# Altium footprint library CapacitoresIntiSat.PCBLIB: 196 footprints (part 5 of 13)
Each footprint in its own frame and in the unit in brackets; x right, y up, seen from the top. Pads: shape width x height; smd on the part's side, far side on the other; paste and mask are expansions set on the pad; w line width, h text height; cw(c..) or ccw(c..) is an arc to the next point about the centre after c.
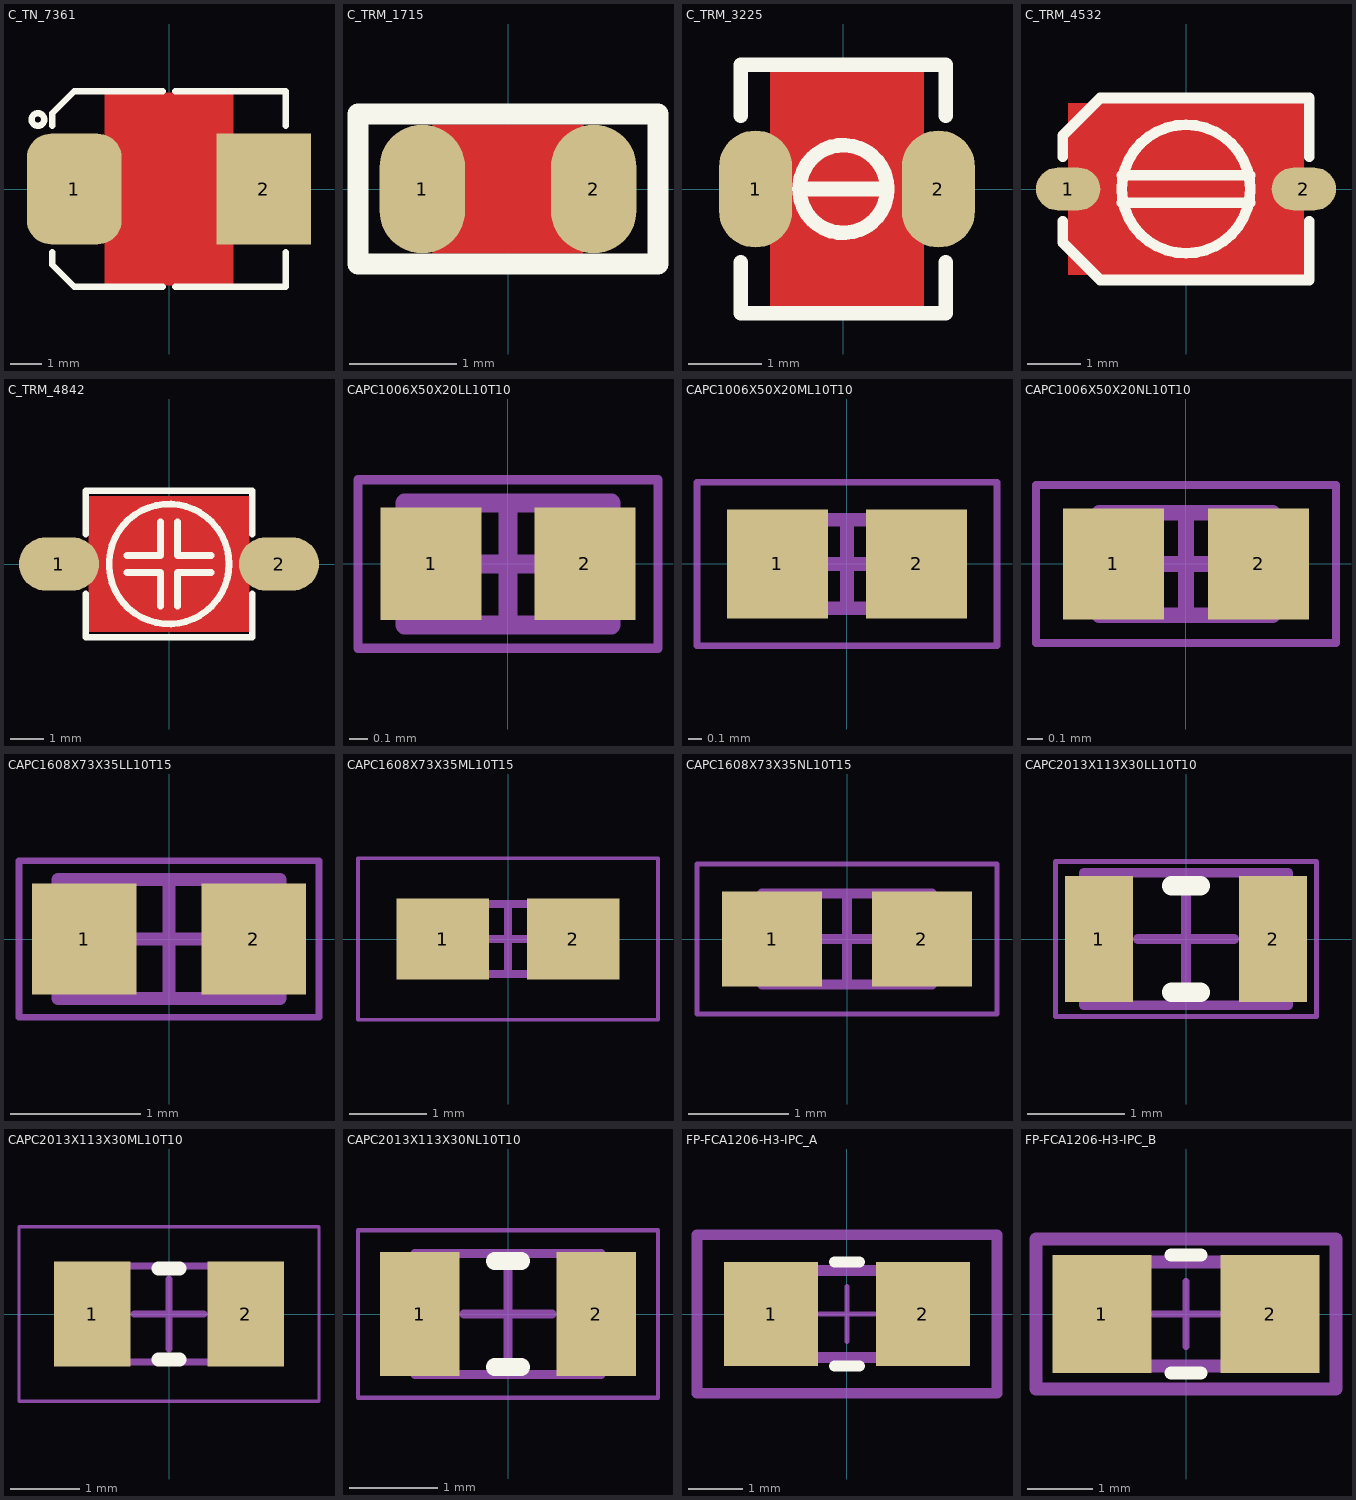
[diagram p4: the footprints below, top view; thin cyan lines are the x and y axes]

## C_TN_7361 [mm] "CAPACITOR, TAN V, 2924, 7361, 7.3X6.1mm"
pads (2):
  rrect50% 3x3.5 smd: 1(-3,0)
  rect 3x3.5 smd: 2(3,0)
Top Layer:
  pour cut-out: -2.032,3.048 -2.032,-3.048 2.032,-3.048 2.032,3.048
Top Overlay:
  circle w0.2: c-4.15,2.2 r0.2
  lines w0.2: -3.7,-2 -3.7,-2.4 -3,-3.1 -0.2,-3.1 ; -3.7,2 -3.7,2.4 -3,3.1 -0.2,3.1 ; 0.2,-3.1 3.7,-3.1 3.7,-2 ; 0.2,3.1 3.7,3.1 3.7,2
3D body "User Library-CT_V.step": height 3.45, standoff 0, extent -3.65,-3.05 3.65,3.05

## C_TRM_1715 [mm] "Cap, Trimmer TZR1 1.7mmX1.5mm"
pads (2):
  oval 0.8x1.2 smd mask+0.075: 1(-0.8,0) 2(0.8,0)
Top Layer:
  pour cut-out: -0.7,0.6 0.7,0.6 0.7,-0.6 -0.7,-0.6
Top Overlay:
  lines w0.2: -1.4,-0.7 -1.4,0.7 1.4,0.7 1.4,-0.7 -1.4,-0.7
3D body "User Library-TZR1.STEP": height 1, standoff -0.01, extent -0.864,-0.75 0.85,0.75

## C_TRM_3225 [mm] "Cap, Trimmer TZY2 3.2mmX2.5mm"
pads (2):
  oval 1x1.6 smd: 1(-1.2,0) 2(1.3,0)
Top Layer:
  pour cut-out: -1,1.7 1.1,1.7 1.1,-1.6 -1,-1.6
Top Overlay:
  circle w0.2: c0,0 r0.6
  lines w0.2: -1.4,-1 -1.4,-1.7 1.4,-1.7 1.4,-1 ; -1.4,1 -1.4,1.7 1.4,1.7 1.4,1 ; -0.6,0 0.6,0
3D body "User Library-tzy2seriestrimcap.step": height 1.24, standoff -0.01, extent -1.25,-1.6 1.25,1.6

## C_TRM_4532 [mm] "Cap, Trimmer TZC3 4.5X3.2mm"
pads (2):
  oval 1.2x0.8 smd: 1(-2.2,0) 2(2.2,0)
Top Layer:
  pour cut-out: -2.2,1.6 2.2,1.6 2.2,-1.6 -2.2,-1.6
Top Overlay:
  circle w0.2: c0,0 r1.2
  lines w0.2: -2.3,-0.6 -2.3,-1 -1.6,-1.7 2.3,-1.7 2.3,-0.6 ; -2.3,0.6 -2.3,1 -1.6,1.7 2.3,1.7 2.3,0.6 ; -1.2,-0.254 1.2,-0.254 ; -1.2,0.254 1.2,0.254
3D body "User Library-TZC3P300A110R00.STEP": height 1.6, standoff 0, extent -2.25,-1.6 2.25,1.6

## C_TRM_4842 [mm] "Cap, Trimmer SMD 4.8x4.2mm"
pads (2):
  oval 2.4x1.6 smd: 1(-3.3,0) 2(3.3,0)
Top Layer:
  pour cut-out: -2.413,2.032 2.413,2.032 2.413,-2.032 -2.413,-2.032
Top Overlay:
  circle w0.2: c0,0 r1.8
  lines w0.2: -2.5,-0.9 -2.5,-2.2 2.5,-2.2 2.5,-0.9 ; -2.5,0.9 -2.5,2.2 2.5,2.2 2.5,0.9 ; -1.27,-0.254 -0.254,-0.254 -0.254,-1.27 ; -1.27,0.254 -0.254,0.254 -0.254,1.27 ; 0.254,-1.27 0.254,-0.254 1.27,-0.254 ; 0.254,1.27 0.254,0.254 1.27,0.254
3D body "User Library-trimmer.step": height 3.25, standoff 0, extent -3.523,-2.1 3.523,2.1

## CAPC1006X50X20LL10T10 [mm] "Chip Capacitor, 2-Leads, Body 1.00x0.55mm, IPC High Density"
height 0.5
pads (2):
  rect 0.54x0.6 smd: 1(-0.41,0) 2(0.41,0)
Mechanical 13:
  lines w0.1: -0.55,-0.325 -0.55,0.325 0.55,0.325 0.55,-0.325 -0.55,-0.325
Mechanical 15:
  lines w0.05: -0.8,-0.45 -0.8,0.45 0.8,0.45 0.8,-0.45 -0.8,-0.45
  lines w0.1: -0.325,0 0.325,0 ; 0,-0.325 0,0.325
3D body: height 0.5, standoff 0, extent -0.35,-0.325 0.35,0.325
3D body: height 0.5, standoff 0, extent -0.55,-0.325 -0.35,0.325
3D body: height 0.5, standoff 0, extent 0.35,-0.325 0.55,0.325

## CAPC1006X50X20ML10T10 [mm] "Chip Capacitor, 2-Leads, Body 1.00x0.55mm, IPC Low Density"
height 0.5
pads (2):
  rect 0.74x0.8 smd: 1(-0.51,0) 2(0.51,0)
Mechanical 13:
  lines w0.1: -0.55,-0.325 -0.55,0.325 0.55,0.325 0.55,-0.325 -0.55,-0.325
Mechanical 15:
  lines w0.05: -1.1,-0.6 -1.1,0.6 1.1,0.6 1.1,-0.6 -1.1,-0.6
  lines w0.1: -0.325,0 0.325,0 ; 0,-0.325 0,0.325
3D body: height 0.5, standoff 0, extent -0.35,-0.325 0.35,0.325
3D body: height 0.5, standoff 0, extent -0.55,-0.325 -0.35,0.325
3D body: height 0.5, standoff 0, extent 0.35,-0.325 0.55,0.325

## CAPC1006X50X20NL10T10 [mm] "Chip Capacitor, 2-Leads, Body 1.00x0.55mm, IPC Medium Density"
height 0.5
pads (2):
  rect 0.64x0.7 smd: 1(-0.46,0) 2(0.46,0)
Mechanical 13:
  lines w0.1: -0.55,-0.325 -0.55,0.325 0.55,0.325 0.55,-0.325 -0.55,-0.325
Mechanical 15:
  lines w0.05: -0.95,-0.5 -0.95,0.5 0.95,0.5 0.95,-0.5 -0.95,-0.5
  lines w0.1: -0.325,0 0.325,0 ; 0,-0.325 0,0.325
3D body: height 0.5, standoff 0, extent -0.35,-0.325 0.35,0.325
3D body: height 0.5, standoff 0, extent -0.55,-0.325 -0.35,0.325
3D body: height 0.5, standoff 0, extent 0.35,-0.325 0.55,0.325

## CAPC1608X73X35LL10T15 [mm] "Chip Capacitor, 2-Leads, Body 1.60x0.81mm, IPC High Density"
height 0.73
pads (2):
  rect 0.8x0.85 smd: 1(-0.65,0) 2(0.65,0)
Mechanical 13:
  lines w0.1: -0.85,-0.455 0.85,-0.455 0.85,0.455 -0.85,0.455 -0.85,-0.455
Mechanical 15:
  lines w0.05: -1.15,-0.6 1.15,-0.6 1.15,0.6 -1.15,0.6 -1.15,-0.6
  lines w0.1: -0.455,0 0.455,0 ; 0,-0.455 0,0.455
3D body: height 0.73, standoff 0, extent 0.5,-0.455 0.85,0.455
3D body: height 0.73, standoff 0, extent -0.85,-0.455 -0.5,0.455
3D body: height 0.73, standoff 0, extent -0.5,-0.455 0.5,0.455

## CAPC1608X73X35ML10T15 [mm] "Chip Capacitor, 2-Leads, Body 1.60x0.81mm, IPC Low Density"
height 0.73
pads (2):
  rect 1.2x1.05 smd: 1(-0.85,0) 2(0.85,0)
Mechanical 13:
  lines w0.1: -0.85,-0.455 -0.85,0.455 0.85,0.455 0.85,-0.455 -0.85,-0.455
Mechanical 15:
  lines w0.05: -1.95,-1.05 -1.95,1.05 1.95,1.05 1.95,-1.05 -1.95,-1.05
  lines w0.1: -0.455,0 0.455,0 ; 0,-0.455 0,0.455
3D body: height 0.73, standoff 0, extent -0.5,-0.455 0.5,0.455
3D body: height 0.73, standoff 0, extent -0.85,-0.455 -0.5,0.455
3D body: height 0.73, standoff 0, extent 0.5,-0.455 0.85,0.455

## CAPC1608X73X35NL10T15 [mm] "Chip Capacitor, 2-Leads, Body 1.60x0.81mm, IPC Medium Density"
height 0.73
pads (2):
  rect 1x0.95 smd: 1(-0.75,0) 2(0.75,0)
Mechanical 13:
  lines w0.1: -0.85,-0.455 0.85,-0.455 0.85,0.455 -0.85,0.455 -0.85,-0.455
Mechanical 15:
  lines w0.05: -1.5,-0.75 1.5,-0.75 1.5,0.75 -1.5,0.75 -1.5,-0.75
  lines w0.1: -0.455,0 0.455,0 ; 0,-0.455 0,0.455
3D body: height 0.73, standoff 0, extent 0.5,-0.455 0.85,0.455
3D body: height 0.73, standoff 0, extent -0.85,-0.455 -0.5,0.455
3D body: height 0.73, standoff 0, extent -0.5,-0.455 0.5,0.455

## CAPC2013X113X30LL10T10 [mm] "Chip Capacitor, 2-Leads, Body 2.01x1.27mm, IPC High Density"
height 1.13
pads (2):
  rect 0.7x1.3 smd: 1(-0.9,0) 2(0.9,0)
Top Overlay:
  lines w0.2: -0.15,-0.55 0.15,-0.55 ; -0.15,0.55 0.15,0.55
Mechanical 13:
  lines w0.1: -1.055,-0.685 1.055,-0.685 1.055,0.685 -1.055,0.685 -1.055,-0.685
Mechanical 15:
  lines w0.05: -1.35,-0.8 1.35,-0.8 1.35,0.8 -1.35,0.8 -1.35,-0.8
  lines w0.1: -0.5,0 0.5,0 ; 0,-0.5 0,0.5
3D body: height 1.13, standoff 0, extent 0.755,-0.685 1.055,0.685
3D body: height 1.13, standoff 0, extent -1.055,-0.685 -0.755,0.685
3D body: height 1.13, standoff 0, extent -0.755,-0.685 0.755,0.685

## CAPC2013X113X30ML10T10 [mm] "Chip Capacitor, 2-Leads, Body 2.01x1.27mm, IPC Low Density"
height 1.13
pads (2):
  rect 1.1x1.5 smd: 1(-1.1,0) 2(1.1,0)
Top Overlay:
  lines w0.2: -0.15,-0.65 0.15,-0.65 ; -0.15,0.65 0.15,0.65
Mechanical 13:
  lines w0.1: -1.055,-0.685 -1.055,0.685 1.055,0.685 1.055,-0.685 -1.055,-0.685
Mechanical 15:
  lines w0.05: -2.15,-1.25 -2.15,1.25 2.15,1.25 2.15,-1.25 -2.15,-1.25
  lines w0.1: -0.5,0 0.5,0 ; 0,-0.5 0,0.5
3D body: height 1.13, standoff 0, extent -0.755,-0.685 0.755,0.685
3D body: height 1.13, standoff 0, extent -1.055,-0.685 -0.755,0.685
3D body: height 1.13, standoff 0, extent 0.755,-0.685 1.055,0.685

## CAPC2013X113X30NL10T10 [mm] "Chip Capacitor, 2-Leads, Body 2.01x1.27mm, IPC Medium Density"
height 1.13
pads (2):
  rect 0.9x1.4 smd: 1(-1,0) 2(1,0)
Top Overlay:
  lines w0.2: -0.15,-0.6 0.15,-0.6 ; -0.15,0.6 0.15,0.6
Mechanical 13:
  lines w0.1: -1.055,-0.685 1.055,-0.685 1.055,0.685 -1.055,0.685 -1.055,-0.685
Mechanical 15:
  lines w0.05: -1.7,-0.95 1.7,-0.95 1.7,0.95 -1.7,0.95 -1.7,-0.95
  lines w0.1: -0.5,0 0.5,0 ; 0,-0.5 0,0.5
3D body: height 1.13, standoff 0, extent 0.755,-0.685 1.055,0.685
3D body: height 1.13, standoff 0, extent -1.055,-0.685 -0.755,0.685
3D body: height 1.13, standoff 0, extent -0.755,-0.685 0.755,0.685

## FP-FCA1206-H3-IPC_A [mm]
pads (2):
  rect 1.723x1.91 smd paste+0 mask+0: 1(-1.393,0) 2(1.393,0)
Top Overlay:
  lines w0.2: -0.232,-0.955 0.232,-0.955 ; -0.232,0.955 0.232,0.955
Mechanical 5:
  lines w0.2: -2.755,-1.455 -2.755,1.455 2.755,1.455 2.755,-1.455 -2.755,-1.455
  text ".Designator" at 0,0.188 h1
Mechanical 13:
  lines w0.2: -1.6,-0.8 -1.6,0.8 1.6,0.8 1.6,-0.8 -1.6,-0.8
Mechanical 15:
  lines w0.2: -2.755,-1.455 -2.755,1.455 2.755,1.455 2.755,-1.455 -2.755,-1.455
Mechanical 16:
  lines w0.1: -0.5,0 0.5,0 ; 0,-0.5 0,0.5
3D body "Cap_Cornell_Dubilier_Electronics_FCA1206A105M-H3_eec.STEP": height 0.25, standoff 0, extent -2.755,-1.455 2.755,1.455

## FP-FCA1206-H3-IPC_B [mm]
pads (2):
  rect 1.523x1.81 smd paste+0 mask+0: 1(-1.293,0) 2(1.293,0)
Top Overlay:
  lines w0.2: -0.232,-0.905 0.232,-0.905 ; -0.232,0.905 0.232,0.905
Mechanical 5:
  lines w0.2: -2.305,-1.155 2.305,-1.155 2.305,1.155 -2.305,1.155 -2.305,-1.155
  text ".Designator" at 0,0.188 h1
Mechanical 13:
  lines w0.2: -1.6,-0.8 1.6,-0.8 1.6,0.8 -1.6,0.8 -1.6,-0.8
Mechanical 15:
  lines w0.2: -2.305,-1.155 2.305,-1.155 2.305,1.155 -2.305,1.155 -2.305,-1.155
Mechanical 16:
  lines w0.1: -0.5,0 0.5,0 ; 0,-0.5 0,0.5
3D body "Cap_Cornell_Dubilier_Electronics_FCA1206A105M-H3_eec.STEP": height 0.25, standoff 0, extent -2.305,-1.155 2.305,1.155